# Altium footprint library PcbLib1.PcbLib: 1 footprints
Each footprint in its own frame and in the unit in brackets; x right, y up, seen from the top. Pads: shape width x height; smd on the part's side, far side on the other; paste and mask are expansions set on the pad; w line width, h text height; cw(c..) or ccw(c..) is an arc to the next point about the centre after c.
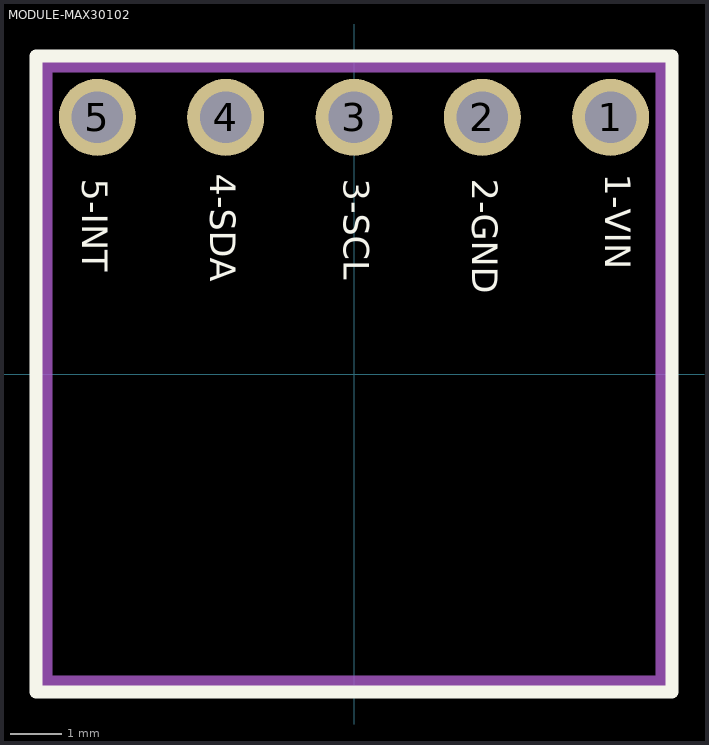
[diagram p0: the footprint, top view; thin cyan lines are the x and y axes]

## MODULE-MAX30102 [mm] "Heart Rate Sensor Module (MAX30102)"
height 2
pads (5):
  round 1.5 hole 1: 1(5,5) 2(2.5,5) 3(0,5) 4(-2.5,5) 5(-5,5)
Top Overlay:
  lines w0.254: -6.2,-6.2 6.2,-6.2 6.2,6.2 -6.2,6.2 -6.2,-6.2
  text "5-INT" at -5.3,3.8 h0.5
  text "4-SDA" at -2.8,3.9 h0.5
  text "3-SCL" at -0.2,3.8 h0.5
  text "2-GND" at 2.3,3.8 h0.5
  text "1-VIN" at 4.9,3.9 h0.5
Mechanical 1:
  lines w0.254: -6,-6 6,-6 6,6 -6,6 -6,-6
3D body "MAX30102.STEP": height 1.61, standoff -0.23, extent -6,-6 6,6